# Altium footprint library SparkFun-Boards.PCBLIB: 59 footprints (part 1 of 4)
Each footprint in its own frame and in the unit in brackets; x right, y up, seen from the top. Pads: shape width x height; smd on the part's side, far side on the other; paste and mask are expansions set on the pad; w line width, h text height; cw(c..) or ccw(c..) is an arc to the next point about the centre after c.
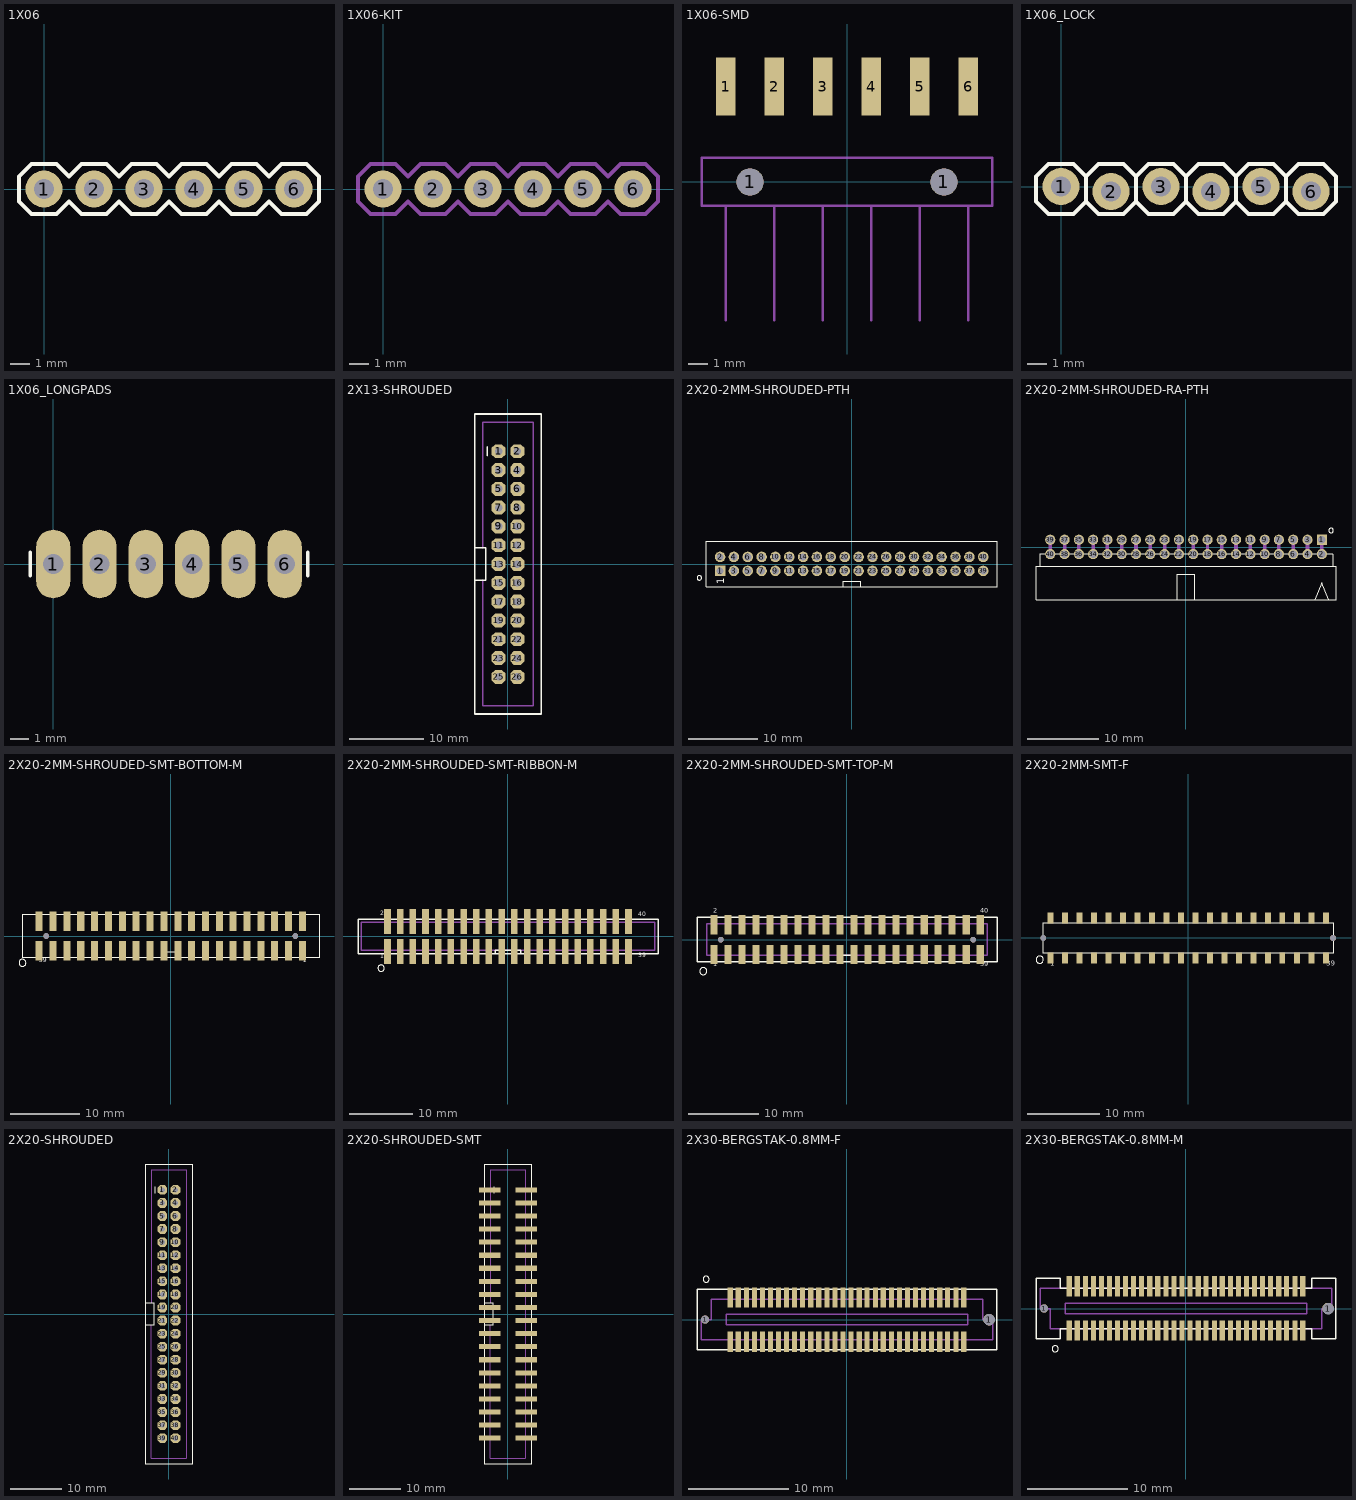
[diagram p0: the footprints below, top view; thin cyan lines are the x and y axes]

## 1X06 [mil]
pads (6):
  round 74 hole 40: 1(0,0) 2(100,0) 3(200,0) 4(300,0) 5(400,0) 6(500,0)
Top Overlay:
  lines w8: -50,-25 -50,25 -25,50 25,50 50,25 75,50 125,50 150,25 175,50 225,50 250,25 275,50 325,50 350,25 375,50 425,50 450,25 475,50 525,50 550,25 550,-25 525,-50 475,-50 450,-25 425,-50 375,-50 350,-25 325,-50 275,-50 250,-25 225,-50 175,-50 150,-25 125,-50 75,-50 50,-25 25,-50 -25,-50 -50,-25
Mechanical 2:
  text ">NAME" at -53,72 h77.5
Mechanical 4:
  text ">VALUE" at -50,-125 h77.5
Mechanical 16:
  rectangle: 490,-10 510,10
  rectangle: 390,-10 410,10
  rectangle: 290,-10 310,10
  rectangle: 190,-10 210,10
  rectangle: 90,-10 110,10
  rectangle: -10,-10 10,10

## 1X06-KIT [mil]
pads (6):
  round 74 hole 40: 1(0,0) 2(100,0) 3(200,0) 4(300,0) 5(400,0) 6(500,0)
Top Solder:
  region: 0,0 10,0 10,10 0,10
  region: 0,0 10,0 10,10 0,10
  region: 0,0 10,0 10,10 0,10
  region: 0,0 10,0 10,10 0,10
  region: 0,0 10,0 10,10 0,10
  region: 0,0 10,0 10,10 0,10
Bottom Solder:
  region: 0,0 10,0 10,10 0,10
  region: 0,0 10,0 10,10 0,10
  region: 0,0 10,0 10,10 0,10
  region: 0,0 10,0 10,10 0,10
  region: 0,0 10,0 10,10 0,10
  region: 0,0 10,0 10,10 0,10
Mechanical 2:
  text ">NAME" at -53,72 h77.5
Mechanical 4:
  text ">VALUE" at -50,-125 h77.5
Mechanical 16:
  rectangle: 490,-10 510,10
  rectangle: 390,-10 410,10
  rectangle: 290,-10 310,10
  rectangle: 190,-10 210,10
  rectangle: 90,-10 110,10
  rectangle: -10,-10 10,10
  lines w8: -50,-25 -50,25 -25,50 25,50 50,25 75,50 125,50 150,25 175,50 225,50 250,25 275,50 325,50 350,25 375,50 425,50 450,25 475,50 525,50 550,25 550,-25 525,-50 475,-50 450,-25 425,-50 375,-50 350,-25 325,-50 275,-50 250,-25 225,-50 175,-50 150,-25 125,-50 75,-50 50,-25 25,-50 -25,-50 -50,-25

## 1X06-SMD [mil]
pads (8):
  rect 40x119 smd: 1(-250,197) 2(-150,197) 3(-50,197) 4(50,197) 5(150,197) 6(250,197)
  round 56 hole 56: 1(-200,0) 1(200,0)
Mechanical 16:
  lines w5: -250,-285.43 -250,-49.21 ; -150,-285.43 -150,-49.21 ; -50,-285.43 -50,-49.21 ; 50,-285.43 50,-49.21 ; 150,-285.43 150,-49.21 ; 250,-285.43 250,-49.21 ; -250,-49.21 -300,-49.21 -300,50 300,50 300,-49.21 250,-49.21 ; -250,-49.21 -150,-49.21 ; -150,-49.21 -50,-49.21 ; -50,-49.21 50,-49.21 ; 50,-49.21 150,-49.21 ; 150,-49.21 250,-49.21

## 1X06_LOCK [mil]
pads (6):
  round 74 hole 40: 1(0,0) 2(100,-10) 3(200,0) 4(300,-10) 5(400,0) 6(500,-10)
Top Overlay:
  lines w8: 50,-30 75,-55 125,-55 150,-30 ; 50,-30 25,-55 -25,-55 -50,-30 -50,20 -25,45 25,45 50,20 ; 50,-30 50,20 ; 50,20 75,45 125,45 150,20 ; 150,-30 175,-55 225,-55 250,-30 ; 150,-30 150,20 ; 150,20 175,45 225,45 250,20 ; 250,-30 275,-55 325,-55 350,-30 ; 250,-30 250,20 ; 250,20 275,45 325,45 350,20 ; 350,-30 375,-55 425,-55 450,-30 ; 350,-30 350,20 ; 350,20 375,45 425,45 450,20 ; 450,-30 475,-55 525,-55 550,-30 550,20 525,45 475,45 450,20 ; 450,-30 450,20
Mechanical 2:
  text ">NAME" at -50,70 h42.5
Mechanical 4:
  text ">VALUE" at -50,-130 h42.5
Mechanical 16:
  rectangle: -11.5,-16.5 12,7
  rectangle: 89,-16.5 112,7
  rectangle: 189,-16.5 212,7
  rectangle: 289,-16.5 312,7
  rectangle: 389,-16.5 412,7
  rectangle: 489,-16.5 512,7

## 1X06_LONGPADS [mil]
pads (6):
  oval 74x148 hole 44: 1(0,0) 2(100,0) 3(200,0) 4(300,0) 5(400,0) 6(500,0)
Top Overlay:
  lines w8: -50,-25 -50,25 ; 550,-25 550,25
Mechanical 2:
  text ">NAME" at -53,97 h77.5
Mechanical 4:
  text ">VALUE" at -50,-150 h77.5
Mechanical 16:
  rectangle: 490,-10 510,10
  rectangle: 390,-10 410,10
  rectangle: 290,-10 310,10
  rectangle: 190,-10 210,10
  rectangle: 90,-10 110,10
  rectangle: -10,-10 10,10

## 2X13-SHROUDED [mil]
pads (26):
  oct 74x74 hole 40: 1(-50,600) 2(50,600) 3(-50,500) 4(50,500) 5(-50,400) 6(50,400) 7(-50,300) 8(50,300) 9(-50,200) 10(50,200) 11(-50,100) 12(50,100) 13(-50,0) 14(50,0) 15(-50,-100) 16(50,-100) 17(-50,-200) 18(50,-200) 19(-50,-300) 20(50,-300) 21(-50,-400) 22(50,-400) 23(-50,-500) 24(50,-500) 25(-50,-600) 26(50,-600)
Top Overlay:
  lines w8: -109.25,575 -109.25,625 ; 174,798 -177.17,798 -177.17,87 ; 178,798 178,-797.64 -177.17,-797.64 -177.17,-86.61 ; -177.17,-86.61 -177.17,87 ; -177.17,-86.61 -118.11,-86.61 -118.11,87 -177.17,87
Mechanical 4:
  text ">VALUE" at -115,810 h13.6
Mechanical 16:
  rectangle: -60,590 -40,610
  rectangle: 40,590 60,610
  rectangle: 40,490 60,510
  rectangle: -60,490 -40,510
  rectangle: 40,390 60,410
  rectangle: -60,390 -40,410
  rectangle: 40,290 60,310
  rectangle: -60,290 -40,310
  rectangle: 40,190 60,210
  rectangle: -60,190 -40,210
  rectangle: -60,290 -40,310
  rectangle: 40,290 60,310
  rectangle: -60,90 -40,110
  rectangle: 40,90 60,110
  rectangle: 40,-10 60,10
  rectangle: -60,-10 -40,10
  rectangle: 40,-110 60,-90
  rectangle: -60,-110 -40,-90
  rectangle: 40,-210 60,-190
  rectangle: -60,-210 -40,-190
  rectangle: 40,-310 60,-290
  rectangle: -60,-310 -40,-290
  rectangle: -60,-210 -40,-190
  rectangle: 40,-210 60,-190
  rectangle: 40,-410 60,-390
  rectangle: -60,-410 -40,-390
  rectangle: 40,-510 60,-490
  rectangle: -60,-510 -40,-490
  rectangle: 40,-610 60,-590
  rectangle: -60,-610 -40,-590
  rectangle: -60,-510 -40,-490
  rectangle: 40,-510 60,-490
  lines w8: -133.86,-86.61 -133.86,-754.33 134,-754.33 134,755 -133.86,755 -133.86,87
Mech51:
  text ">NAME" at -115,-830 h24.8

## 2X20-2MM-SHROUDED-PTH [mil]
pads (40):
  rect 60x60 hole 40: 1(-748.03,-39.37)
  round 60 hole 40: 2(-748.03,40) 3(-669.29,-39.37) 4(-669.29,40) 5(-590.55,-39.37) 6(-590.55,40) 7(-511.81,-39.37) 8(-511.81,40) 9(-433.07,-39.37) 10(-433.07,40) 11(-354.33,-39.37) 12(-354.33,40) 13(-275.59,-39.37) 14(-275.59,40) 15(-196.85,-39.37) 16(-196.85,40) 17(-118.11,-39.37) 18(-118.11,40) 19(-39.37,-39.37) 20(-39.37,40) 21(40,-39.37) 22(40,40) 23(119,-39.37) 24(119,40) 25(197,-39.37) 26(197,40) 27(276,-39.37) 28(276,40) 29(355,-39.37) 30(355,40) 31(434,-39.37) 32(434,40) 33(512,-39.37) 34(512,40) 35(591,-39.37) 36(591,40) 37(670,-39.37) 38(670,40) 39(749,-39.37) 40(749,40)
Top Overlay:
  circle w0: c-866.14,-78.74 r13
  lines w5: -47.24,-127.95 -826.77,-127.95 -826.77,128 827,128 827,-127.95 48,-127.95 ; -47.24,-127.95 -47.24,-98.43 48,-98.43 48,-127.95 ; -47.24,-127.95 48,-127.95
  text "1" at -724.41,-114.17 h42.5
Mechanical 2:
  text ">NAME" at -850,-100 h42.5
Mechanical 4:
  text ">VALUE" at -800,125 h42.5

## 2X20-2MM-SHROUDED-RA-PTH [mil]
pads (40):
  rect 56x56 hole 40: 1(749,40)
  round 56 hole 40: 2(749,-39.37) 3(670,40) 4(670,-39.37) 5(591,40) 6(591,-39.37) 7(512,40) 8(512,-39.37) 9(434,40) 10(434,-39.37) 11(355,40) 12(355,-39.37) 13(276,40) 14(276,-39.37) 15(197,40) 16(197,-39.37) 17(119,40) 18(119,-39.37) 19(40,40) 20(40,-39.37) 21(-39.37,40) 22(-39.37,-39.37) 23(-118.11,40) 24(-118.11,-39.37) 25(-196.85,40) 26(-196.85,-39.37) 27(-275.59,40) 28(-275.59,-39.37) 29(-354.33,40) 30(-354.33,-39.37) 31(-433.07,40) 32(-433.07,-39.37) 33(-511.81,40) 34(-511.81,-39.37) 35(-590.55,40) 36(-590.55,-39.37) 37(-669.29,40) 38(-669.29,-39.37) 39(-748.03,40) 40(-748.03,-39.37)
Top Overlay:
  circle w0: c800,91 r13
  lines w5: -807.09,-106.3 -826.77,-106.3 -826.77,-291.34 -47.24,-291.34 ; -807.09,-106.3 808,-106.3 ; -807.09,-106.3 -807.09,-39.37 808,-39.37 808,-106.3 ; -47.24,-291.34 48,-291.34 ; -47.24,-291.34 -47.24,-149.61 48,-149.61 48,-291.34 ; 48,-291.34 709,-291.34 ; 709,-291.34 788,-291.34 ; 709,-291.34 749,-196.85 788,-291.34 ; 788,-291.34 827,-291.34 827,-106.3 808,-106.3
Mechanical 2:
  text ">NAME" at -314.96,-196.85 h42.5
Mechanical 4:
  text ">VALUE" at 119,-196.85 h42.5
Mechanical 16:
  rectangle: -757.87,-39.37 -738.19,50
  rectangle: -679.13,-39.37 -659.45,50
  rectangle: -600.39,-39.37 -580.71,50
  rectangle: -521.65,-39.37 -501.97,50
  rectangle: -442.91,-39.37 -423.23,50
  rectangle: -364.17,-39.37 -344.49,50
  rectangle: -285.43,-39.37 -265.75,50
  rectangle: -206.69,-39.37 -187.01,50
  rectangle: -127.95,-39.37 -108.27,50
  rectangle: -49.21,-39.37 -29.53,50
  rectangle: 30,-39.37 50,50
  rectangle: 109,-39.37 128,50
  rectangle: 188,-39.37 207,50
  rectangle: 266,-39.37 286,50
  rectangle: 345,-39.37 365,50
  rectangle: 424,-39.37 443,50
  rectangle: 502,-39.37 522,50
  rectangle: 581,-39.37 601,50
  rectangle: 660,-39.37 680,50
  rectangle: 739,-39.37 758,50

## 2X20-2MM-SHROUDED-SMT-BOTTOM-M [mil]
pads (42):
  round 32 hole 32: 1(-708.66,0) 1(709,0)
  rect 40x109 smd: 1(749,-83.66) 2(749,84) 3(670,-83.66) 4(670,84) 5(591,-83.66) 6(591,84) 7(512,-83.66) 8(512,84) 9(434,-83.66) 10(434,84) 11(355,-83.66) 12(355,84) 13(276,-83.66) 14(276,84) 15(197,-83.66) 16(197,84) 17(119,-83.66) 18(119,84) 19(40,-83.66) 20(40,84) 21(-39.37,-83.66) 22(-39.37,84) 23(-118.11,-83.66) 24(-118.11,84) 25(-196.85,-83.66) 26(-196.85,84) 27(-275.59,-83.66) 28(-275.59,84) 29(-354.33,-83.66) 30(-354.33,84) 31(-433.07,-83.66) 32(-433.07,84) 33(-511.81,-83.66) 34(-511.81,84) 35(-590.55,-83.66) 36(-590.55,84) 37(-669.29,-83.66) 38(-669.29,84) 39(-748.03,-83.66) 40(-748.03,84)
Top Overlay:
  circle w0: c-842.91,-152.17 r20
  lines w5: -39.37,-124.02 -39.37,-88.58 40,-88.58 40,-124.02 ; -842.52,-124.02 843,-124.02 843,125 -842.52,125 -842.52,-124.02
  text "39" at -750,-150 h27.2
  text "1" at 750,-150 h27.2
Mechanical 2:
  text ">NAME" at -551.18,-15.75 h49.6
Mechanical 4:
  text ">VALUE" at 87,-19.68 h49.6

## 2X20-2MM-SHROUDED-SMT-RIBBON-M [mil]
pads (40):
  rect 41x154 smd: 1(-748.03,-92.52) 2(-748.03,93) 3(-669.29,-92.52) 4(-669.29,93) 5(-590.55,-92.52) 6(-590.55,93) 7(-511.81,-92.52) 8(-511.81,93) 9(-433.07,-92.52) 10(-433.07,93) 11(-354.33,-92.52) 12(-354.33,93) 13(-275.59,-92.52) 14(-275.59,93) 15(-196.85,-92.52) 16(-196.85,93) 17(-118.11,-92.52) 18(-118.11,93) 19(-39.37,-92.52) 20(-39.37,93) 21(40,-92.52) 22(40,93) 23(119,-92.52) 24(119,93) 25(197,-92.52) 26(197,93) 27(276,-92.52) 28(276,93) 29(355,-92.52) 30(355,93) 31(434,-92.52) 32(434,93) 33(512,-92.52) 34(512,93) 35(591,-92.52) 36(591,93) 37(670,-92.52) 38(670,93) 39(749,-92.52) 40(749,93)
Top Overlay:
  circle w0: c-787.4,-196.85 r20
  lines w8: -78.74,-106.3 -931.1,-106.3 -931.1,107 932,107 932,-106.3 79,-106.3 ; -78.74,-106.3 -78.74,-86.61 79,-86.61 79,-106.3 ; -78.74,-106.3 79,-106.3
  text "1" at -793.31,-134.25 h27.2
  text "2" at -793.31,131 h27.2
  text "40" at 810,127 h27.2
  text "39" at 810,-130.31 h27.2
Mechanical 2:
  text ">NAME" at -551.18,-15.75 h49.6
Mechanical 4:
  text ">VALUE" at 87,-19.68 h49.6
Mechanical 16:
  lines w8: -911.42,-86.61 -911.42,87 912,87 912,-86.61 -911.42,-86.61

## 2X20-2MM-SHROUDED-SMT-TOP-M [mil]
pads (42):
  rect 40x109 smd: 1(-748.03,-83.66) 2(-748.03,84) 3(-669.29,-83.66) 4(-669.29,84) 5(-590.55,-83.66) 6(-590.55,84) 7(-511.81,-83.66) 8(-511.81,84) 9(-433.07,-83.66) 10(-433.07,84) 11(-354.33,-83.66) 12(-354.33,84) 13(-275.59,-83.66) 14(-275.59,84) 15(-196.85,-83.66) 16(-196.85,84) 17(-118.11,-83.66) 18(-118.11,84) 19(-39.37,-83.66) 20(-39.37,84) 21(40,-83.66) 22(40,84) 23(119,-83.66) 24(119,84) 25(197,-83.66) 26(197,84) 27(276,-83.66) 28(276,84) 29(355,-83.66) 30(355,84) 31(434,-83.66) 32(434,84) 33(512,-83.66) 34(512,84) 35(591,-83.66) 36(591,84) 37(670,-83.66) 38(670,84) 39(749,-83.66) 40(749,84)
  round 32 hole 32: 1(-708.66,0) 1(709,0)
Top Overlay:
  circle w0: c-807.09,-177.17 r20
  lines w8: -39.37,-124.02 -842.52,-124.02 -842.52,125 843,125 843,-124.02 40,-124.02 ; -39.37,-124.02 -39.37,-88.58 40,-88.58 40,-124.02 ; -39.37,-124.02 40,-124.02
  text "1" at -750,-150 h27.2
  text "2" at -750,150 h27.2
  text "40" at 750,150 h27.2
  text "39" at 750,-150 h27.2
Mechanical 2:
  text ">NAME" at -551.18,-15.75 h49.6
Mechanical 4:
  text ">VALUE" at 87,-19.68 h49.6
Mechanical 16:
  lines w8: -787.4,-88.58 -787.4,89 788,89 788,-88.58 -787.4,-88.58

## 2X20-2MM-SMT-F [mil]
pads (42):
  round 32 hole 32: 1(-787.4,0) 1(788,0)
  rect 32x60 smd: 1(-748.03,-108.27) 2(-748.03,109) 3(-669.29,-108.27) 4(-669.29,109) 5(-590.55,-108.27) 6(-590.55,109) 7(-511.81,-108.27) 8(-511.81,109) 9(-433.07,-108.27) 10(-433.07,109) 11(-354.33,-108.27) 12(-354.33,109) 13(-275.59,-108.27) 14(-275.59,109) 15(-196.85,-108.27) 16(-196.85,109) 17(-118.11,-108.27) 18(-118.11,109) 19(-39.37,-108.27) 20(-39.37,109) 21(40,-108.27) 22(40,109) 23(119,-108.27) 24(119,109) 25(197,-108.27) 26(197,109) 27(276,-108.27) 28(276,109) 29(355,-108.27) 30(355,109) 31(434,-108.27) 32(434,109) 33(512,-108.27) 34(512,109) 35(591,-108.27) 36(591,109) 37(670,-108.27) 38(670,109) 39(749,-108.27) 40(749,109)
Top Overlay:
  circle w0: c-807.09,-118.11 r20
  lines w5: -787.4,-82.68 788,-82.68 788,83 -787.4,83 -787.4,-82.68
  text "1" at -750,-150 h27.2
  text "39" at 750,-150 h27.2
Mechanical 2:
  text ">NAME" at -551.18,-39.37 h49.6
Mechanical 4:
  text ">VALUE" at 79,-39.37 h49.6

## 2X20-SHROUDED [mil]
pads (40):
  oct 74x74 hole 40: 1(-50,950) 2(50,950) 3(-50,850) 4(50,850) 5(-50,750) 6(50,750) 7(-50,650) 8(50,650) 9(-50,550) 10(50,550) 11(-50,450) 12(50,450) 13(-50,350) 14(50,350) 15(-50,250) 16(50,250) 17(-50,150) 18(50,150) 19(-50,50) 20(50,50) 21(-50,-50) 22(50,-50) 23(-50,-150) 24(50,-150) 25(-50,-250) 26(50,-250) 27(-50,-350) 28(50,-350) 29(-50,-450) 30(50,-450) 31(-50,-550) 32(50,-550) 33(-50,-650) 34(50,-650) 35(-50,-750) 36(50,-750) 37(-50,-850) 38(50,-850) 39(-50,-950) 40(50,-950)
Top Overlay:
  lines w8: -177.17,-86.61 -118.11,-86.61 -118.11,87 -177.17,87 ; -109.25,925 -109.25,975 ; 174,1148 -177.17,1148 -177.17,-1147.64 178,-1147.64 178,1148
Mechanical 4:
  text ">VALUE" at -115,1160 h13.6
Mechanical 16:
  rectangle: -60,940 -40,960
  rectangle: 40,940 60,960
  rectangle: 40,840 60,860
  rectangle: -60,840 -40,860
  rectangle: 40,740 60,760
  rectangle: -60,740 -40,760
  rectangle: 40,640 60,660
  rectangle: -60,640 -40,660
  rectangle: 40,540 60,560
  rectangle: -60,540 -40,560
  rectangle: -60,640 -40,660
  rectangle: 40,640 60,660
  rectangle: -60,440 -40,460
  rectangle: 40,440 60,460
  rectangle: 40,340 60,360
  rectangle: -60,340 -40,360
  rectangle: 40,240 60,260
  rectangle: -60,240 -40,260
  rectangle: 40,140 60,160
  rectangle: -60,140 -40,160
  rectangle: 40,40 60,60
  rectangle: -60,40 -40,60
  rectangle: -60,140 -40,160
  rectangle: 40,140 60,160
  rectangle: 40,-60 60,-40
  rectangle: -60,-60 -40,-40
  rectangle: 40,-160 60,-140
  rectangle: -60,-160 -40,-140
  rectangle: 40,-260 60,-240
  rectangle: -60,-260 -40,-240
  rectangle: -60,-160 -40,-140
  rectangle: 40,-160 60,-140
  rectangle: 40,-360 60,-340
  rectangle: 40,-460 60,-440
  rectangle: 40,-560 60,-540
  rectangle: 40,-660 60,-640
  rectangle: 40,-760 60,-740
  rectangle: 40,-860 60,-840
  rectangle: 40,-960 60,-940
  rectangle: -60,-360 -40,-340
  rectangle: -60,-460 -40,-440
  rectangle: -60,-560 -40,-540
  rectangle: -60,-660 -40,-640
  rectangle: -60,-760 -40,-740
  rectangle: -60,-860 -40,-840
  rectangle: -60,-960 -40,-940
  lines w8: -133.86,-86.61 -133.86,-1104.33 134,-1104.33 134,1105 -133.86,1105 -133.86,87
Mech51:
  text ">NAME" at -115,-1180 h24.8

## 2X20-SHROUDED-SMT [mil]
pads (40):
  rect 163x39 smd: 1(-140.5,950) 2(141,950) 3(-140.5,850) 4(141,850) 5(-140.5,750) 6(141,750) 7(-140.5,650) 8(141,650) 9(-140.5,550) 10(141,550) 11(-140.5,450) 12(141,450) 13(-140.5,350) 14(141,350) 15(-140.5,250) 16(141,250) 17(-140.5,150) 18(141,150) 19(-140.5,50) 20(141,50) 21(-140.5,-50) 22(141,-50) 23(-140.5,-150) 24(141,-150) 25(-140.5,-250) 26(141,-250) 27(-140.5,-350) 28(141,-350) 29(-140.5,-450) 30(141,-450) 31(-140.5,-550) 32(141,-550) 33(-140.5,-650) 34(141,-650) 35(-140.5,-750) 36(141,-750) 37(-140.5,-850) 38(141,-850) 39(-140.5,-950) 40(141,-950)
Top Overlay:
  lines w8: -177.17,-86.61 -118.11,-86.61 -118.11,87 -177.17,87 ; -109.25,925 -109.25,975 ; 174,1148 -177.17,1148 -177.17,-1147.64 178,-1147.64 178,1148
Mechanical 4:
  text ">VALUE" at -115,1160 h13.6
Mechanical 16:
  lines w8: -133.86,-86.61 -133.86,-1104.33 134,-1104.33 134,1105 -133.86,1105 -133.86,87

## 2X30-BERGSTAK-0.8MM-F [mil]
pads (62):
  round 32 hole 32: 1(-555.12,0)
  rect 20x79 smd: 1(-456.69,87) 2(-456.69,-86.61) 3(-425.2,87) 4(-425.2,-86.61) 5(-393.7,87) 6(-393.7,-86.61) 7(-362.2,87) 8(-362.2,-86.61) 9(-330.71,87) 10(-330.71,-86.61) 11(-299.21,87) 12(-299.21,-86.61) 13(-267.72,87) 14(-267.72,-86.61) 15(-236.22,87) 16(-236.22,-86.61) 17(-204.72,87) 18(-204.72,-86.61) 19(-173.23,87) 20(-173.23,-86.61) 21(-141.73,87) 22(-141.73,-86.61) 23(-110.24,87) 24(-110.24,-86.61) 25(-78.74,87) 26(-78.74,-86.61) 27(-47.24,87) 28(-47.24,-86.61) 29(-15.75,87) 30(-15.75,-86.61) 31(16,87) 32(16,-86.61) 33(48,87) 34(48,-86.61) 35(79,87) 36(79,-86.61) 37(111,87) 38(111,-86.61) 39(142,87) 40(142,-86.61) 41(174,87) 42(174,-86.61) 43(205,87) 44(205,-86.61) 45(237,87) 46(237,-86.61) 47(268,87) 48(268,-86.61) 49(300,87) 50(300,-86.61) 51(331,87) 52(331,-86.61) 53(363,87) 54(363,-86.61) 55(394,87) 56(394,-86.61) 57(426,87) 58(426,-86.61) 59(457,87) 60(457,-86.61)
  round 45 hole 45: 1(556,0)
Top Overlay:
  circle w0: c-551.18,158 r12
  lines w5: -586.61,-118.11 587,-118.11 587,119 -586.61,119 -586.61,-118.11
Mechanical 16:
  lines w5: -570.87,-78.74 571,-78.74 571,0 532,0 532,79 -531.5,79 -531.5,0 -570.87,0 -570.87,-78.74 ; -472.44,-19.68 473,-19.68 473,20 -472.44,20 -472.44,-19.68

## 2X30-BERGSTAK-0.8MM-M [mil]
pads (62):
  round 32 hole 32: 1(-555.12,0)
  rect 20x79 smd: 1(-456.69,-86.61) 2(-456.69,87) 3(-425.2,-86.61) 4(-425.2,87) 5(-393.7,-86.61) 6(-393.7,87) 7(-362.2,-86.61) 8(-362.2,87) 9(-330.71,-86.61) 10(-330.71,87) 11(-299.21,-86.61) 12(-299.21,87) 13(-267.72,-86.61) 14(-267.72,87) 15(-236.22,-86.61) 16(-236.22,87) 17(-204.72,-86.61) 18(-204.72,87) 19(-173.23,-86.61) 20(-173.23,87) 21(-141.73,-86.61) 22(-141.73,87) 23(-110.24,-86.61) 24(-110.24,87) 25(-78.74,-86.61) 26(-78.74,87) 27(-47.24,-86.61) 28(-47.24,87) 29(-15.75,-86.61) 30(-15.75,87) 31(16,-86.61) 32(16,87) 33(48,-86.61) 34(48,87) 35(79,-86.61) 36(79,87) 37(111,-86.61) 38(111,87) 39(142,-86.61) 40(142,87) 41(174,-86.61) 42(174,87) 43(205,-86.61) 44(205,87) 45(237,-86.61) 46(237,87) 47(268,-86.61) 48(268,87) 49(300,-86.61) 50(300,87) 51(331,-86.61) 52(331,87) 53(363,-86.61) 54(363,87) 55(394,-86.61) 56(394,87) 57(426,-86.61) 58(426,87) 59(457,-86.61) 60(457,87)
  round 45 hole 45: 1(556,0)
Top Overlay:
  circle w0: c-511.81,-157.48 r12
  lines w5: -586.61,-118.11 -492.13,-118.11 -492.13,-78.74 493,-78.74 493,-118.11 587,-118.11 587,119 493,119 493,79 -492.13,79 -492.13,119 -586.61,119 -586.61,-118.11
Mechanical 16:
  lines w5: -570.87,0 -531.5,0 -531.5,-78.74 532,-78.74 532,0 571,0 571,79 -570.87,79 -570.87,0 ; -472.44,-19.68 473,-19.68 473,20 -472.44,20 -472.44,-19.68